# Altium integrated library MicroXNJ.IntLib: 1 symbol
Pins are listed as number, name and electrical type; pins without a type are passive.

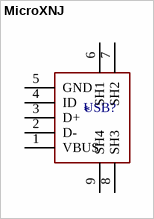
[diagram p0: symbol MicroXNJ]

## MicroXNJ
designator USB?  (value not drawn)
USB Connectors. -20C~+85C 1 1.8A 30V 5,000 times 5P Black Female Micro-B Surface Mount, Right Angle USB 2.0 SMD USB Connectors ROHS; Manufacturer: SHOU HAN; Component Type: Connectors; Design Item ID: MicroXNJ; Value: *; JLCPCB Part #: C404969; Manufacturer Part Number: MicroXNJ
footprint MicroXNJ (MICRO-USB-SMD_MICROXNJ_1)
pins: 1 VBUS, 2 D-, 3 D+, 4 ID, 5 GND, 6 SH1, 7 SH2, 8 SH3, 9 SH4